# Altium schematic symbol library buzzer.SchLib: 1 symbol
Pins are listed as number, name and electrical type; pins without a type are passive.

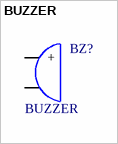
[diagram p0: symbol BUZZER]

## BUZZER
designator BZ?
value: CR2032
footprint D12P76 (Diameter 12mm; pitch 7.6)
pins: 1 +, 2 -